# EAGLE library part LT1769 (library Custom_Library)
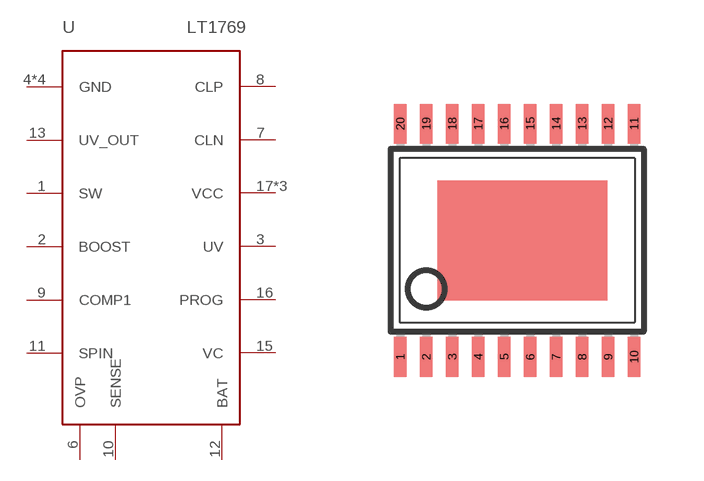
[diagram p4: symbol with the pads of TSSOP20; footprint TSSOP20]

Designator prefix -

## LT1769  [TSSOP20]
1  SW
2  BOOST
3  UV
4  GND
5  GND
6  OVP
7  CLN
8  CLP
9  COMP1
10  SENSE
11  SPIN
12  BAT
13  UV_OUT
14  GND
15  VC
16  PROG
17  VCC
18  VCC
19  VCC
20  GND

## Footprint TSSOP20 (pad centres in mm)
smd 0.305 x 0.991: 1 -2.925,-2.918; 2 -2.275,-2.918; 3 -1.625,-2.918; 4 -0.975,-2.918; 5 -0.325,-2.918; 6 0.325,-2.918; 7 0.975,-2.918; 8 1.625,-2.918; 9 2.275,-2.918; 10 2.925,-2.918; 11 2.925,2.918; 12 2.275,2.918; 13 1.625,2.918; 14 0.975,2.918; 15 0.325,2.918; 16 -0.325,2.918; 17 -0.975,2.918; 18 -1.625,2.918; 19 -2.275,2.918; 20 -2.925,2.918